# EAGLE library part ACCELEROMETER (library accelerometer)
Accelerometer Mouser Part # 841-MMA8652FCR1
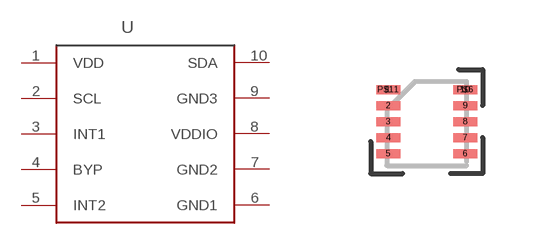
[diagram p0: symbol with the pads of DFN-10; footprint DFN-10]

Designator prefix -

## ACCELEROMETER  [DFN-10]
1  VDD
2  SCL
3  INT1
4  BYP
5  INT2
6  GND1
7  GND2
8  VDDIO
9  GND3
10  SDA

## Footprint DFN-10 (pad centres in mm)
Accelerometer Mouser Part # 841-MMA8652FCR1
smd 0.6 x 0.225: 1 -0.963,1.6; 2 -0.963,1.2; 3 -0.963,0.8; 4 -0.963,0.4; 5 -0.963,0; 6 0.963,0; 7 0.963,0.4; 8 0.963,0.8; 9 0.963,1.2; 10 0.963,1.6; P$6 0.963,1.6; P$11 -0.963,1.6